# EAGLE library part SDA4212 (library yb-library)
ECL Teiler mit 256:1 bzw. 64:1
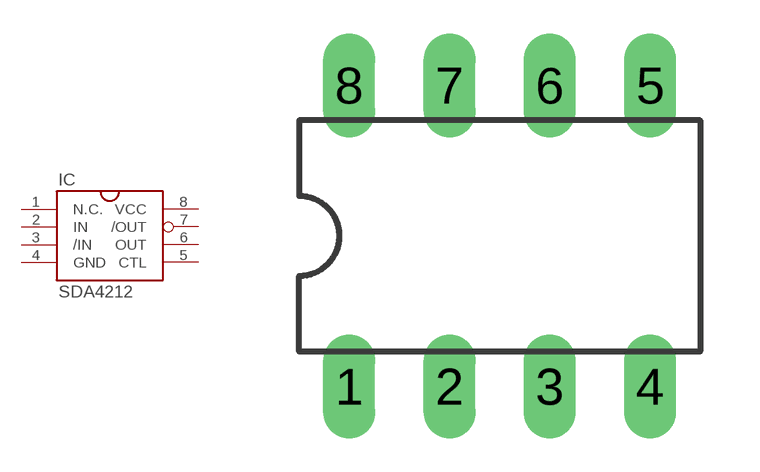
[diagram p3: symbol with the pads of DIL08; footprint DIL08]

Designator prefix IC

## SDA4212  [DIL08]
1  N.C.  nc
2  IN  in
3  /IN  in
4  GND  pwr
5  CTL  in
6  OUT  out
7  /OUT  out
8  VCC  pwr

## Footprint DIL08 (pad centres in mm)
Dual In Line Package
drill 0.813 long: 1 -3.81,-3.81; 2 -1.27,-3.81; 3 1.27,-3.81; 4 3.81,-3.81; 5 3.81,3.81; 6 1.27,3.81; 7 -1.27,3.81; 8 -3.81,3.81